# EAGLE library part MCP606-I/P (library MCP606)
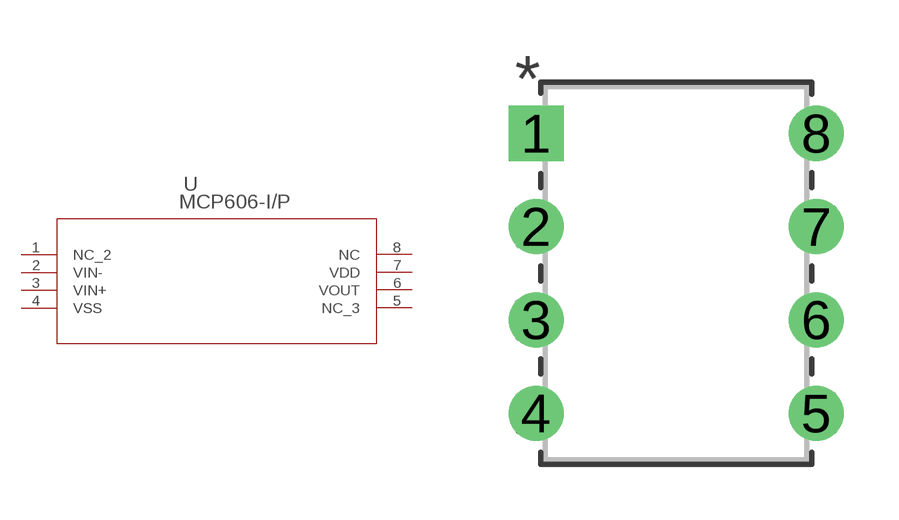
[diagram p0: symbol with the pads of PDIP8_300MC; footprint PDIP8_300MC]

Designator prefix U

## MCP606-I/P (MANUFACTURER_PART_NUMBER: MCP606IP; VENDOR: Microchip)  [PDIP8_300MC]
1  NC_2  pas
2  VIN-  pas
3  VIN+  pas
4  VSS  pas
5  NC_3  pas
6  VOUT  pas
7  VDD  pas
8  NC  pas

## Footprint PDIP8_300MC (pad centres in mm)
drill 0.991 pad 1.499 square: 1 -7.62,7.62
drill 0.991 pad 1.499: 2 -7.62,5.08; 3 -7.62,2.54; 4 -7.62,0; 5 0,0; 6 0,2.54; 7 0,5.08; 8 0,7.62